# Altium schematic symbol library SMBJ10CA-13-F.SchLib: 1 symbol
Pins are listed as number, name and electrical type; pins without a type are passive.

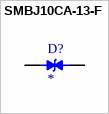
[diagram p0: symbol SMBJ10CA-13-F]

## SMBJ10CA-13-F
designator D?
MF: {'manufacturer': u'Diodes Incorporated'}; MP: SMBJ10CA-13-F; Package: None; Price: None; Value: *; Availability: Unavailable
footprint DIOM4336X265N
pins: 1, 2